# EAGLE library part MC1206 (library linear)
ZEGAR LED
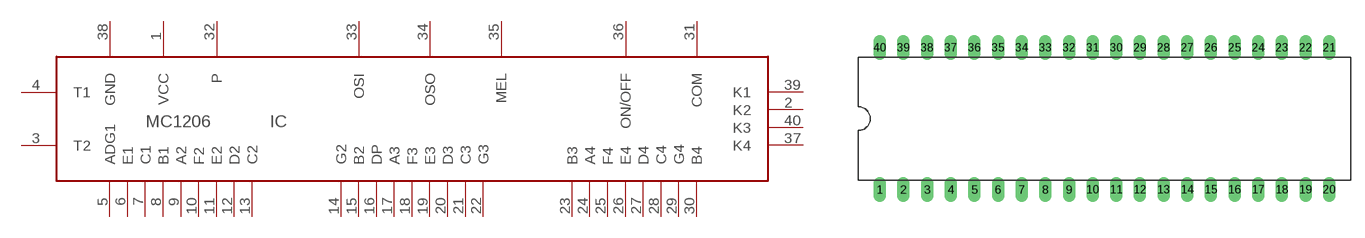
[diagram p265: symbol with the pads of DIL40; footprint DIL40]

Designator prefix IC

## MC1206  [DIL40]
1  VCC
2  K2
3  T2
4  T1
5  ADG1
6  E1
7  C1
8  B1
9  A2
10  F2
11  E2
12  D2
13  C2
14  G2
15  B2
16  DP
17  A3
18  F3
19  E3
20  D3
21  C3
22  G3
23  B3
24  A4
25  F4
26  E4
27  D4
28  C4
29  G4
30  B4
31  COM
32  P
33  OSI
34  OSO
35  MEL
36  ON/OFF
37  K4
38  GND
39  K1
40  K3

## Footprint DIL40 (pad centres in mm)
drill 0.813 long: 1 -24.13,-7.62; 2 -21.59,-7.62; 3 -19.05,-7.62; 4 -16.51,-7.62; 5 -13.97,-7.62; 6 -11.43,-7.62; 7 -8.89,-7.62; 8 -6.35,-7.62; 9 -3.81,-7.62; 10 -1.27,-7.62; 11 1.27,-7.62; 12 3.81,-7.62; 13 6.35,-7.62; 14 8.89,-7.62; 15 11.43,-7.62; 16 13.97,-7.62; 17 16.51,-7.62; 18 19.05,-7.62; 19 21.59,-7.62; 20 24.13,-7.62; 21 24.13,7.62; 22 21.59,7.62; 23 19.05,7.62; 24 16.51,7.62; 25 13.97,7.62; 26 11.43,7.62; 27 8.89,7.62; 28 6.35,7.62; 29 3.81,7.62; 30 1.27,7.62; 31 -1.27,7.62; 32 -3.81,7.62; 33 -6.35,7.62; 34 -8.89,7.62; 35 -11.43,7.62; 36 -13.97,7.62; 37 -16.51,7.62; 38 -19.05,7.62; 39 -21.59,7.62; 40 -24.13,7.62